# Altium footprint library relay_12_min.PcbLib: 1 footprints
Each footprint in its own frame and in the unit in brackets; x right, y up, seen from the top. Pads: shape width x height; smd on the part's side, far side on the other; paste and mask are expansions set on the pad; w line width, h text height; cw(c..) or ccw(c..) is an arc to the next point about the centre after c.
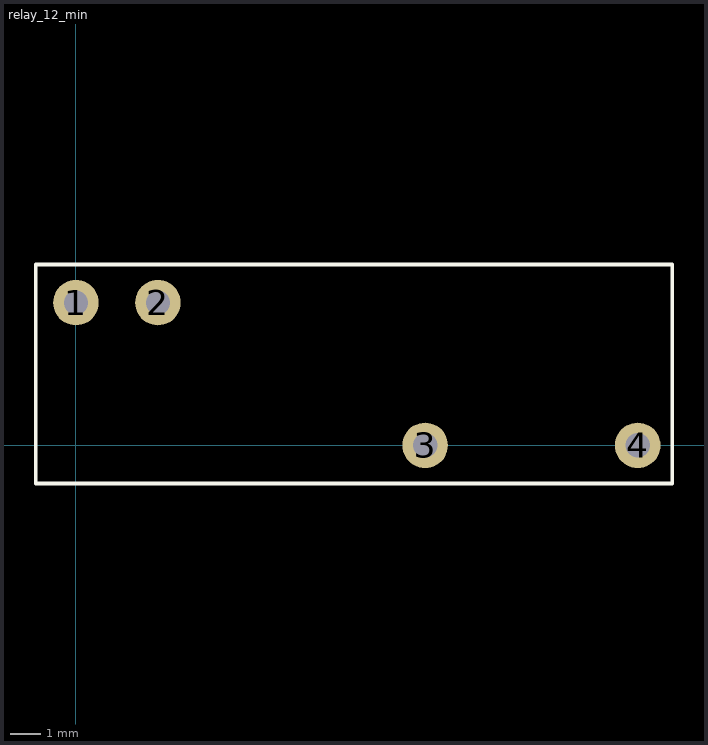
[diagram p0: the footprint, top view; thin cyan lines are the x and y axes]

## relay_12_min [mm]
pads (4):
  round 1.5 hole 0.8: 1(0,4.7) 2(2.7,4.7) 3(11.5,0) 4(18.5,0)
Top Overlay:
  lines w0.127: -1.32,-1.25 -1.32,5.95 19.635,5.95 19.635,-1.25 19.18,-1.25 -1.32,-1.25